# Altium footprint library smd-special.PCBLIB: 55 footprints (part 4 of 4)
Each footprint in its own frame and in the unit in brackets; x right, y up, seen from the top. Pads: shape width x height; smd on the part's side, far side on the other; paste and mask are expansions set on the pad; w line width, h text height; cw(c..) or ccw(c..) is an arc to the next point about the centre after c.
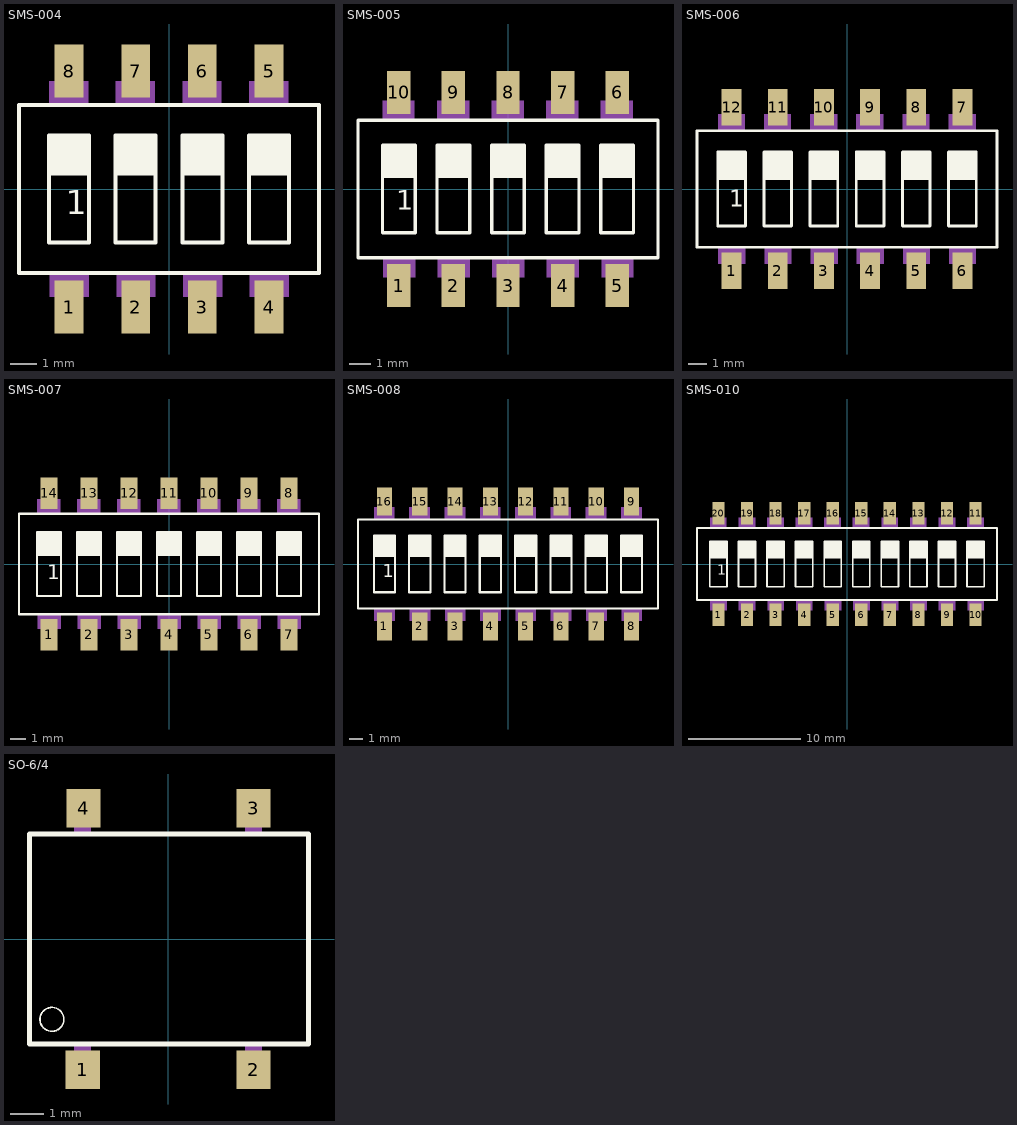
[diagram p3: the footprints below, top view; thin cyan lines are the x and y axes]

## SMS-004 [mil]
pads (8):
  rect 43x79 smd: 1(-150,-177) 2(-50,-177) 3(50,-177) 4(150,-177) 5(150,177) 6(50,177) 7(-50,177) 8(-150,177)
Top Overlay:
  rectangle: -180,20 -120,80
  rectangle: -80,20 -20,80
  rectangle: 20,20 80,80
  rectangle: 120,20 180,80
  lines w6: -225,-126 225,-126 225,126 -225,126 -225,-126 ; -180,-80 -120,-80 -120,80 -180,80 -180,-80 ; -80,-80 -20,-80 -20,80 -80,80 -80,-80 ; 20,-80 80,-80 80,80 20,80 20,-80 ; 120,-80 180,-80 180,80 120,80 120,-80
  text "1" at -155,-50 h62
Mechanical 16:
  rectangle: -179,-162 -120,-126
  rectangle: -162,-204 -138,-162
  rectangle: -79,-162 -20,-126
  rectangle: -62,-204 -38,-162
  rectangle: 21,-162 80,-126
  rectangle: 38,-204 62,-162
  rectangle: 121,-162 180,-126
  rectangle: 138,-204 162,-162
  rectangle: -180,126 -121,162
  rectangle: -162,162 -138,204
  rectangle: -80,126 -21,162
  rectangle: -62,162 -38,204
  rectangle: 20,126 79,162
  rectangle: 38,162 62,204
  rectangle: 120,126 179,162
  rectangle: 138,162 162,204

## SMS-005 [mil]
pads (10):
  rect 43x79 smd: 1(-200,-177) 2(-100,-177) 3(0,-177) 4(100,-177) 5(200,-177) 6(200,177) 7(100,177) 8(0,177) 9(-100,177) 10(-200,177)
Top Overlay:
  rectangle: -230,20 -170,80
  rectangle: -130,20 -70,80
  rectangle: -30,20 30,80
  rectangle: 70,20 130,80
  rectangle: 170,20 230,80
  lines w6: -275,-126 275,-126 275,126 -275,126 -275,-126 ; -230,-80 -170,-80 -170,80 -230,80 -230,-80 ; -130,-80 -70,-80 -70,80 -130,80 -130,-80 ; -30,-80 30,-80 30,80 -30,80 -30,-80 ; 70,-80 130,-80 130,80 70,80 70,-80 ; 170,-80 230,-80 230,80 170,80 170,-80
  text "1" at -205,-50 h62
Mechanical 16:
  rectangle: -229,-162 -170,-126
  rectangle: -212,-204 -188,-162
  rectangle: -129,-162 -70,-126
  rectangle: -112,-204 -88,-162
  rectangle: -29,-162 30,-126
  rectangle: -12,-204 12,-162
  rectangle: 71,-162 130,-126
  rectangle: 88,-204 112,-162
  rectangle: 171,-162 230,-126
  rectangle: 188,-204 212,-162
  rectangle: -230,126 -171,162
  rectangle: -212,162 -188,204
  rectangle: -130,126 -71,162
  rectangle: -112,162 -88,204
  rectangle: -30,126 29,162
  rectangle: -12,162 12,204
  rectangle: 70,126 129,162
  rectangle: 88,162 112,204
  rectangle: 170,126 229,162
  rectangle: 188,162 212,204

## SMS-006 [mil]
pads (12):
  rect 43x79 smd: 1(-250,-177) 2(-150,-177) 3(-50,-177) 4(50,-177) 5(150,-177) 6(250,-177) 7(250,177) 8(150,177) 9(50,177) 10(-50,177) 11(-150,177) 12(-250,177)
Top Overlay:
  rectangle: -280,20 -220,80
  rectangle: -180,20 -120,80
  rectangle: -80,20 -20,80
  rectangle: 20,20 80,80
  rectangle: 120,20 180,80
  rectangle: 220,20 280,80
  lines w6: -325,-126 325,-126 325,126 -325,126 -325,-126 ; -280,-80 -220,-80 -220,80 -280,80 -280,-80 ; -180,-80 -120,-80 -120,80 -180,80 -180,-80 ; -80,-80 -20,-80 -20,80 -80,80 -80,-80 ; 20,-80 80,-80 80,80 20,80 20,-80 ; 120,-80 180,-80 180,80 120,80 120,-80 ; 220,-80 280,-80 280,80 220,80 220,-80
  text "1" at -255,-50 h62
Mechanical 16:
  rectangle: -279,-162 -220,-126
  rectangle: -262,-204 -238,-162
  rectangle: -179,-162 -120,-126
  rectangle: -162,-204 -138,-162
  rectangle: -79,-162 -20,-126
  rectangle: -62,-204 -38,-162
  rectangle: 21,-162 80,-126
  rectangle: 38,-204 62,-162
  rectangle: 121,-162 180,-126
  rectangle: 138,-204 162,-162
  rectangle: 221,-162 280,-126
  rectangle: 238,-204 262,-162
  rectangle: -280,126 -221,162
  rectangle: -262,162 -238,204
  rectangle: -180,126 -121,162
  rectangle: -162,162 -138,204
  rectangle: -80,126 -21,162
  rectangle: -62,162 -38,204
  rectangle: 20,126 79,162
  rectangle: 38,162 62,204
  rectangle: 120,126 179,162
  rectangle: 138,162 162,204
  rectangle: 220,126 279,162
  rectangle: 238,162 262,204

## SMS-007 [mil]
pads (14):
  rect 43x79 smd: 1(-300,-177) 2(-200,-177) 3(-100,-177) 4(0,-177) 5(100,-177) 6(200,-177) 7(300,-177) 8(300,177) 9(200,177) 10(100,177) 11(0,177) 12(-100,177) 13(-200,177) 14(-300,177)
Top Overlay:
  rectangle: -330,20 -270,80
  rectangle: -230,20 -170,80
  rectangle: -130,20 -70,80
  rectangle: -30,20 30,80
  rectangle: 70,20 130,80
  rectangle: 170,20 230,80
  rectangle: 270,20 330,80
  lines w6: -375,-126 375,-126 375,126 -375,126 -375,-126 ; -330,-80 -270,-80 -270,80 -330,80 -330,-80 ; -230,-80 -170,-80 -170,80 -230,80 -230,-80 ; -130,-80 -70,-80 -70,80 -130,80 -130,-80 ; -30,-80 30,-80 30,80 -30,80 -30,-80 ; 70,-80 130,-80 130,80 70,80 70,-80 ; 170,-80 230,-80 230,80 170,80 170,-80 ; 270,-80 330,-80 330,80 270,80 270,-80
  text "1" at -305,-50 h62
Mechanical 16:
  rectangle: -329,-162 -270,-126
  rectangle: -312,-204 -288,-162
  rectangle: -229,-162 -170,-126
  rectangle: -212,-204 -188,-162
  rectangle: -129,-162 -70,-126
  rectangle: -112,-204 -88,-162
  rectangle: -29,-162 30,-126
  rectangle: -12,-204 12,-162
  rectangle: 71,-162 130,-126
  rectangle: 88,-204 112,-162
  rectangle: 171,-162 230,-126
  rectangle: 188,-204 212,-162
  rectangle: 271,-162 330,-126
  rectangle: 288,-204 312,-162
  rectangle: -330,126 -271,162
  rectangle: -312,162 -288,204
  rectangle: -230,126 -171,162
  rectangle: -212,162 -188,204
  rectangle: -130,126 -71,162
  rectangle: -112,162 -88,204
  rectangle: -30,126 29,162
  rectangle: -12,162 12,204
  rectangle: 70,126 129,162
  rectangle: 88,162 112,204
  rectangle: 170,126 229,162
  rectangle: 188,162 212,204
  rectangle: 270,126 329,162
  rectangle: 288,162 312,204

## SMS-008 [mil]
pads (16):
  rect 43x79 smd: 1(-350,-177) 2(-250,-177) 3(-150,-177) 4(-50,-177) 5(50,-177) 6(150,-177) 7(250,-177) 8(350,-177) 9(350,177) 10(250,177) 11(150,177) 12(50,177) 13(-50,177) 14(-150,177) 15(-250,177) 16(-350,177)
Top Overlay:
  rectangle: -380,20 -320,80
  rectangle: -280,20 -220,80
  rectangle: -180,20 -120,80
  rectangle: -80,20 -20,80
  rectangle: 20,20 80,80
  rectangle: 120,20 180,80
  rectangle: 220,20 280,80
  rectangle: 320,20 380,80
  lines w6: -425,-126 425,-126 425,126 -425,126 -425,-126 ; -380,-80 -320,-80 -320,80 -380,80 -380,-80 ; -280,-80 -220,-80 -220,80 -280,80 -280,-80 ; -180,-80 -120,-80 -120,80 -180,80 -180,-80 ; -80,-80 -20,-80 -20,80 -80,80 -80,-80 ; 20,-80 80,-80 80,80 20,80 20,-80 ; 120,-80 180,-80 180,80 120,80 120,-80 ; 220,-80 280,-80 280,80 220,80 220,-80 ; 320,-80 380,-80 380,80 320,80 320,-80
  text "1" at -355,-50 h62
Mechanical 16:
  rectangle: -379,-162 -320,-126
  rectangle: -362,-204 -338,-162
  rectangle: -279,-162 -220,-126
  rectangle: -262,-204 -238,-162
  rectangle: -179,-162 -120,-126
  rectangle: -162,-204 -138,-162
  rectangle: -79,-162 -20,-126
  rectangle: -62,-204 -38,-162
  rectangle: 21,-162 80,-126
  rectangle: 38,-204 62,-162
  rectangle: 121,-162 180,-126
  rectangle: 138,-204 162,-162
  rectangle: 221,-162 280,-126
  rectangle: 238,-204 262,-162
  rectangle: 321,-162 380,-126
  rectangle: 338,-204 362,-162
  rectangle: -380,126 -321,162
  rectangle: -362,162 -338,204
  rectangle: -280,126 -221,162
  rectangle: -262,162 -238,204
  rectangle: -180,126 -121,162
  rectangle: -162,162 -138,204
  rectangle: -80,126 -21,162
  rectangle: -62,162 -38,204
  rectangle: 20,126 79,162
  rectangle: 38,162 62,204
  rectangle: 120,126 179,162
  rectangle: 138,162 162,204
  rectangle: 220,126 279,162
  rectangle: 238,162 262,204
  rectangle: 320,126 379,162
  rectangle: 338,162 362,204

## SMS-010 [mil]
pads (20):
  rect 43x79 smd: 1(-450,-177) 2(-350,-177) 3(-250,-177) 4(-150,-177) 5(-50,-177) 6(50,-177) 7(150,-177) 8(250,-177) 9(350,-177) 10(450,-177) 11(450,177) 12(350,177) 13(250,177) 14(150,177) 15(50,177) 16(-50,177) 17(-150,177) 18(-250,177) 19(-350,177) 20(-450,177)
Top Overlay:
  rectangle: -480,20 -420,80
  rectangle: -380,20 -320,80
  rectangle: -280,20 -220,80
  rectangle: -180,20 -120,80
  rectangle: -80,20 -20,80
  rectangle: 20,20 80,80
  rectangle: 120,20 180,80
  rectangle: 220,20 280,80
  rectangle: 320,20 380,80
  rectangle: 420,20 480,80
  lines w6: -525,-126 525,-126 525,126 -525,126 -525,-126 ; -480,-80 -420,-80 -420,80 -480,80 -480,-80 ; -380,-80 -320,-80 -320,80 -380,80 -380,-80 ; -280,-80 -220,-80 -220,80 -280,80 -280,-80 ; -180,-80 -120,-80 -120,80 -180,80 -180,-80 ; -80,-80 -20,-80 -20,80 -80,80 -80,-80 ; 20,-80 80,-80 80,80 20,80 20,-80 ; 120,-80 180,-80 180,80 120,80 120,-80 ; 220,-80 280,-80 280,80 220,80 220,-80 ; 320,-80 380,-80 380,80 320,80 320,-80 ; 420,-80 480,-80 480,80 420,80 420,-80
  text "1" at -455,-50 h62
Mechanical 16:
  rectangle: -479,-162 -420,-126
  rectangle: -462,-204 -438,-162
  rectangle: -379,-162 -320,-126
  rectangle: -362,-204 -338,-162
  rectangle: -279,-162 -220,-126
  rectangle: -262,-204 -238,-162
  rectangle: -179,-162 -120,-126
  rectangle: -162,-204 -138,-162
  rectangle: -79,-162 -20,-126
  rectangle: -62,-204 -38,-162
  rectangle: 21,-162 80,-126
  rectangle: 38,-204 62,-162
  rectangle: 121,-162 180,-126
  rectangle: 138,-204 162,-162
  rectangle: 221,-162 280,-126
  rectangle: 238,-204 262,-162
  rectangle: -480,126 -421,162
  rectangle: -462,162 -438,204
  rectangle: -380,126 -321,162
  rectangle: -362,162 -338,204
  rectangle: -280,126 -221,162
  rectangle: -262,162 -238,204
  rectangle: -180,126 -121,162
  rectangle: -162,162 -138,204
  rectangle: -80,126 -21,162
  rectangle: -62,162 -38,204
  rectangle: 20,126 79,162
  rectangle: 38,162 62,204
  rectangle: 120,126 179,162
  rectangle: 138,162 162,204
  rectangle: 220,126 279,162
  rectangle: 238,162 262,204
  rectangle: 321,-162 380,-126
  rectangle: 338,-204 362,-162
  rectangle: 421,-162 480,-126
  rectangle: 438,-204 462,-162
  rectangle: 320,126 379,162
  rectangle: 338,162 362,204
  rectangle: 420,126 479,162
  rectangle: 438,162 462,204

## SO-6/4 [mil]
pads (4):
  rect 40x45 smd: 1(-100,-153) 2(100,-153) 3(100,153) 4(-99,153)
Top Overlay:
  circle w2: c-136,-94 r14
  lines w6: -162,-123 164,-123 164,123 -162,123 -162,-123
Mechanical 16:
  rectangle: -110,-159 -90,-125
  rectangle: 90,-159 110,-125
  rectangle: 90,125 110,159
  rectangle: -110,125 -90,159